# Altium footprint library DIP.PcbLib: 25 footprints (part 2 of 2)
Each footprint in its own frame and in the unit in brackets; x right, y up, seen from the top. Pads: shape width x height; smd on the part's side, far side on the other; paste and mask are expansions set on the pad; w line width, h text height; cw(c..) or ccw(c..) is an arc to the next point about the centre after c.
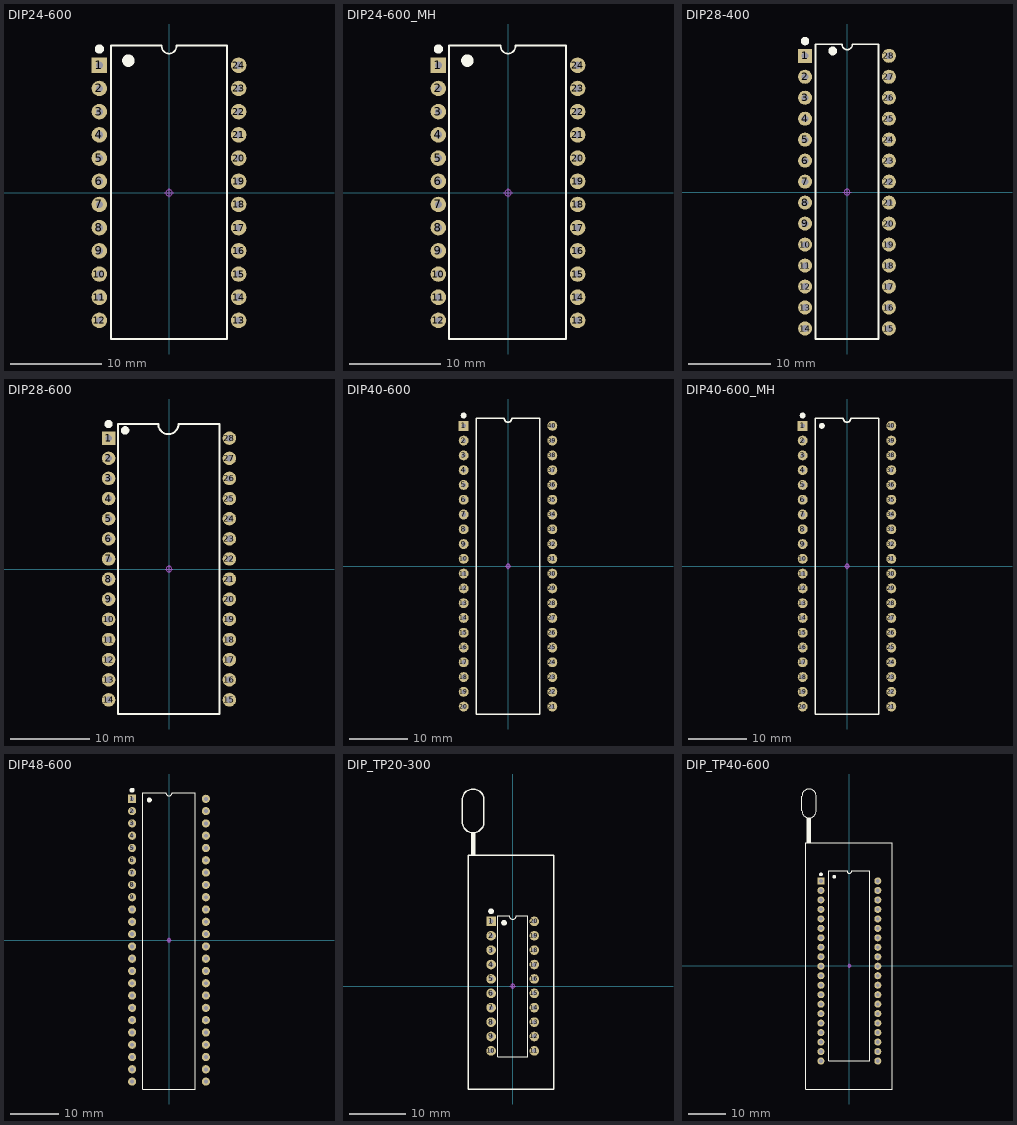
[diagram p1: the footprints below, top view; thin cyan lines are the x and y axes]

## DIP24-600 [mm] "32.5*15.24*3.8(长宽高）"
pads (24):
  rect 1.7x1.7 hole 0.8: 1(-7.62,13.97)
  round 1.7 hole 0.8: 2(-7.62,11.43) 3(-7.62,8.89) 4(-7.62,6.35) 5(-7.62,3.81) 6(-7.62,1.27) 7(-7.62,-1.27) 8(-7.62,-3.81) 9(-7.62,-6.35) 10(-7.62,-8.89) 11(-7.62,-11.43) 12(-7.62,-13.97) 13(7.62,-13.97) 14(7.62,-11.43) 15(7.62,-8.89) 16(7.62,-6.35) 17(7.62,-3.81) 18(7.62,-1.27) 19(7.62,1.27) 20(7.62,3.81) 21(7.62,6.35) 22(7.62,8.89) 23(7.62,11.43) 24(7.62,13.97)
Top Overlay:
  circle w0.508: c-7.62,15.748 r0.254
  circle w1: c-4.445,14.478 r0.18
  lines w0.2: -0.796,16.121 ccw(c0.004,16.044) 0.803,16.134 ; -0.796,16.14 -6.35,16.14 -6.35,-16.002 6.35,-16.002 6.35,16.14 0.803,16.14
Mechanical 15:
  circle w0.05: c0,0 r0.35
  lines w0.05: -0.5,0 0.5,0 ; 0,-0.5 0,0.5
3D body "DIP24-600.STEP": height 4.5, standoff -3.3, extent -7.73,-16.25 7.73,16.25

## DIP24-600_MH [mm] "带底座 32.5*15.24*3.8(长宽高）"
pads (24):
  rect 1.7x1.7 hole 0.8: 1(-7.62,13.97)
  round 1.7 hole 0.8: 2(-7.62,11.43) 3(-7.62,8.89) 4(-7.62,6.35) 5(-7.62,3.81) 6(-7.62,1.27) 7(-7.62,-1.27) 8(-7.62,-3.81) 9(-7.62,-6.35) 10(-7.62,-8.89) 11(-7.62,-11.43) 12(-7.62,-13.97) 13(7.62,-13.97) 14(7.62,-11.43) 15(7.62,-8.89) 16(7.62,-6.35) 17(7.62,-3.81) 18(7.62,-1.27) 19(7.62,1.27) 20(7.62,3.81) 21(7.62,6.35) 22(7.62,8.89) 23(7.62,11.43) 24(7.62,13.97)
Top Overlay:
  circle w0.508: c-7.62,15.748 r0.254
  circle w1: c-4.445,14.478 r0.18
  lines w0.2: -0.796,16.121 ccw(c0.004,16.044) 0.803,16.134 ; -0.796,16.14 -6.46,16.14 -6.46,-16.002 6.35,-16.002 6.35,16.14 0.803,16.14
Mechanical 15:
  circle w0.05: c0,0 r0.35
  lines w0.05: -0.5,0 0.5,0 ; 0,-0.5 0,0.5
3D body "DIP-MH24-600.STEP": height 4.95, standoff -3.05, extent -8.845,-15.5 8.845,15.5
3D body "DIP24-600.STEP": height 7.8, standoff 0, extent -7.73,-16.25 7.73,16.25

## DIP28-400 [mm] "36*10.16*3.8(长宽高）"
pads (28):
  rect 1.7x1.7 hole 0.8: 1(-5.08,16.51)
  round 1.7 hole 0.8: 2(-5.08,13.97) 3(-5.08,11.43) 4(-5.08,8.89) 5(-5.08,6.35) 6(-5.08,3.81) 7(-5.08,1.27) 8(-5.08,-1.27) 9(-5.08,-3.81) 10(-5.08,-6.35) 11(-5.08,-8.89) 12(-5.08,-11.43) 13(-5.08,-13.97) 14(-5.08,-16.51) 15(5.08,-16.51) 16(5.08,-13.97) 17(5.08,-11.43) 18(5.08,-8.89) 19(5.08,-6.35) 20(5.08,-3.81) 21(5.08,-1.27) 22(5.08,1.27) 23(5.08,3.81) 24(5.08,6.35) 25(5.08,8.89) 26(5.08,11.43) 27(5.08,13.97) 28(5.08,16.51)
Top Overlay:
  circle w0.508: c-5.08,18.288 r0.254
  circle w0.8: c-1.727,17.094 r0.127
  lines w0.2: -3.81,-17.78 3.81,-17.78 3.81,17.893 0.66,17.893 cw(c0.025,17.893) -0.61,17.893 -3.81,17.893 -3.81,-17.78
Mechanical 15:
  circle w0.05: c0,0 r0.35
  lines w0.05: -0.5,0 0.5,0 ; 0,-0.5 0,0.5
3D body "DIP28-400.STEP": height 4.5, standoff -3.4, extent -5.28,-17.923 5.28,18.077

## DIP28-600 [mm] "37.3*15.3*4长宽高）"
pads (28):
  rect 1.7x1.7 hole 0.8: 1(-7.62,16.51)
  round 1.7 hole 0.8: 2(-7.62,13.97) 3(-7.62,11.43) 4(-7.62,8.89) 5(-7.62,6.35) 6(-7.62,3.81) 7(-7.62,1.27) 8(-7.62,-1.27) 9(-7.62,-3.81) 10(-7.62,-6.35) 11(-7.62,-8.89) 12(-7.62,-11.43) 13(-7.62,-13.97) 14(-7.62,-16.51) 15(7.62,-16.51) 16(7.62,-13.97) 17(7.62,-11.43) 18(7.62,-8.89) 19(7.62,-6.35) 20(7.62,-3.81) 21(7.62,-1.27) 22(7.62,1.27) 23(7.62,3.81) 24(7.62,6.35) 25(7.62,8.89) 26(7.62,11.43) 27(7.62,13.97) 28(7.62,16.51)
Top Overlay:
  circle w0.508: c-7.62,18.288 r0.254
  circle w0.8: c-5.537,17.49 r0.127
  lines w0.254: -6.46,18.277 -6.46,-18.288 6.35,-18.288 6.35,18.288 1.185,18.288 cw(c-0.085,18.288) -1.355,18.288 -6.435,18.288
Mechanical 15:
  circle w0.05: c0,0 r0.35
  lines w0.05: -0.5,0 0.5,0 ; 0,-0.5 0,0.5
3D body "DIP28-600.STEP": height 4.7, standoff -3.2, extent -7.78,-18.65 7.78,18.65

## DIP40-600 [mm] "52*15.2*4mm(长宽高)"
pads (40):
  rect 1.7x1.7 hole 0.8: 1(-7.62,24.13)
  round 1.7 hole 0.8: 2(-7.62,21.59) 3(-7.62,19.05) 4(-7.62,16.51) 5(-7.62,13.97) 6(-7.62,11.43) 7(-7.62,8.89) 8(-7.62,6.35) 9(-7.62,3.81) 10(-7.62,1.27) 11(-7.62,-1.27) 12(-7.62,-3.81) 13(-7.62,-6.35) 14(-7.62,-8.89) 15(-7.62,-11.43) 16(-7.62,-13.97) 17(-7.62,-16.51) 18(-7.62,-19.05) 19(-7.62,-21.59) 20(-7.62,-24.13) 21(7.62,-24.13) 22(7.62,-21.59) 23(7.62,-19.05) 24(7.62,-16.51) 25(7.62,-13.97) 26(7.62,-11.43) 27(7.62,-8.89) 28(7.62,-6.35) 29(7.62,-3.81) 30(7.62,-1.27) 31(7.62,1.27) 32(7.62,3.81) 33(7.62,6.35) 34(7.62,8.89) 35(7.62,11.43) 36(7.62,13.97) 37(7.62,16.51) 38(7.62,19.05) 39(7.62,21.59) 40(7.62,24.13)
Top Overlay:
  circle w0.508: c-7.62,25.908 r0.254
  lines w0.254: -5.461,-25.4 -5.461,25.4 -0.635,25.4 ccw(c0,25.4) 0.635,25.4 5.461,25.4 5.461,-25.4 -5.461,-25.4
Mechanical 15:
  circle w0.05: c0,0 r0.35
  lines w0.05: -0.5,0 0.5,0 ; 0,-0.5 0,0.5
3D body "DIP40-600.STEP": height 4.7, standoff -3.2, extent -7.78,-26.176 7.78,26.176

## DIP40-600_MH [mm] "带底座 52*15.2*4mm(长宽高)"
pads (40):
  rect 1.7x1.7 hole 0.8: 1(-7.62,24.13)
  round 1.7 hole 0.8: 2(-7.62,21.59) 3(-7.62,19.05) 4(-7.62,16.51) 5(-7.62,13.97) 6(-7.62,11.43) 7(-7.62,8.89) 8(-7.62,6.35) 9(-7.62,3.81) 10(-7.62,1.27) 11(-7.62,-1.27) 12(-7.62,-3.81) 13(-7.62,-6.35) 14(-7.62,-8.89) 15(-7.62,-11.43) 16(-7.62,-13.97) 17(-7.62,-16.51) 18(-7.62,-19.05) 19(-7.62,-21.59) 20(-7.62,-24.13) 21(7.62,-24.13) 22(7.62,-21.59) 23(7.62,-19.05) 24(7.62,-16.51) 25(7.62,-13.97) 26(7.62,-11.43) 27(7.62,-8.89) 28(7.62,-6.35) 29(7.62,-3.81) 30(7.62,-1.27) 31(7.62,1.27) 32(7.62,3.81) 33(7.62,6.35) 34(7.62,8.89) 35(7.62,11.43) 36(7.62,13.97) 37(7.62,16.51) 38(7.62,19.05) 39(7.62,21.59) 40(7.62,24.13)
Top Overlay:
  circle w0.508: c-4.318,24.13 r0.254
  circle w0.508: c-7.62,25.908 r0.254
  lines w0.254: -5.461,-25.4 5.461,-25.4 5.461,25.4 0.635,25.4 cw(c0,25.4) -0.635,25.4 -5.461,25.4 -5.461,-25.4
Mechanical 15:
  circle w0.05: c0,0 r0.35
  lines w0.05: -0.5,0 0.5,0 ; 0,-0.5 0,0.5
3D body "DIP-MH40-600.STEP": height 5.2, standoff -3, extent -8.9,-25.3 8.9,25.3
3D body "DIP40-600.STEP": height 8.3, standoff 0.4, extent -7.78,-26.176 7.78,26.176

## DIP48-600 [mm] "61.49*15.24*3.8(长宽高）"
pads (48):
  rect 1.7x1.7 hole 0.8: 1(-7.62,29.21)
  round 1.7 hole 0.8: 2(-7.62,26.67) 3(-7.62,24.13) 4(-7.62,21.59) 5(-7.62,19.05) 6(-7.62,16.51) 7(-7.62,13.97) 8(-7.62,11.43) 9(-7.62,8.89) 10(-7.62,6.35) 11(-7.62,3.81) 12(-7.62,1.27) 13(-7.62,-1.27) 14(-7.62,-3.81) 15(-7.62,-6.35) 16(-7.62,-8.89) 17(-7.62,-11.43) 18(-7.62,-13.97) 19(-7.62,-16.51) 20(-7.62,-19.05) 21(-7.62,-21.59) 22(-7.62,-24.13) 23(-7.62,-26.67) 24(-7.62,-29.21) 25(7.62,-29.21) 26(7.62,-26.67) 27(7.62,-24.13) 28(7.62,-21.59) 29(7.62,-19.05) 30(7.62,-16.51) 31(7.62,-13.97) 32(7.62,-11.43) 33(7.62,-8.89) 34(7.62,-6.35) 35(7.62,-3.81) 36(7.62,-1.27) 37(7.62,1.27) 38(7.62,3.81) 39(7.62,6.35) 40(7.62,8.89) 41(7.62,11.43) 42(7.62,13.97) 43(7.62,16.51) 44(7.62,19.05) 45(7.62,21.59) 46(7.62,24.13) 47(7.62,26.67) 48(7.62,29.21)
Top Overlay:
  circle w0.508: c-7.62,30.988 r0.254
  circle w0.508: c-4.064,28.956 r0.254
  lines w0.254: -5.461,-30.734 -5.461,30.48 -0.635,30.48 ccw(c0,30.48) 0.635,30.48 5.461,30.48 5.461,-30.734 -5.461,-30.734
Mechanical 15:
  circle w0.05: c0,0 r0.35
  lines w0.05: -0.5,0 0.5,0 ; 0,-0.5 0,0.5
3D body "DIP48-600.STEP": height 4.7, standoff -3.2, extent -7.775,-30.745 7.775,30.745

## DIP_TP20-300 [mm] "41*15*10.5(长宽高）"
pads (20):
  rect 1.7x1.7 hole 0.8: 1(-3.81,11.43)
  round 1.7 hole 0.8: 2(-3.81,8.89) 3(-3.81,6.35) 4(-3.81,3.81) 5(-3.81,1.27) 6(-3.81,-1.27) 7(-3.81,-3.81) 8(-3.81,-6.35) 9(-3.81,-8.89) 10(-3.81,-11.43) 11(3.81,-11.43) 12(3.81,-8.89) 13(3.81,-6.35) 14(3.81,-3.81) 15(3.81,-1.27) 16(3.81,1.27) 17(3.81,3.81) 18(3.81,6.35) 19(3.81,8.89) 20(3.81,11.43)
Top Overlay:
  circle w0.508: c-1.524,11.176 r0.254
  circle w0.508: c-3.81,13.208 r0.254
  rectangle: -7.366,23.114 -6.604,27.051
  lines w0.2: -2.65,-12.446 -2.65,12.446 -0.635,12.446 ccw(c0,12.446) 0.635,12.446 2.65,12.446 2.65,-12.446 -2.65,-12.446
  lines w0.254: -8.89,28.956 ccw(c-6.985,28.956) -5.08,28.956 -5.08,32.893 ccw(c-6.985,32.893) -8.89,32.893 -8.89,28.956 ; -7.874,-18.161 7.239,-18.161 7.239,23.114 -7.874,23.114 -7.874,-18.161
Mechanical 15:
  circle w0.05: c0,0 r0.35
  lines w0.05: -0.5,0 0.5,0 ; 0,-0.5 0,0.5
3D body "DIP_TP20-300.STEP": height 11.15, standoff -3.15, extent -9.26,-18.08 7.09,34.72

## DIP_TP40-600 [mm] "65.5*22.5*11(长宽高）"
pads (40):
  rect 1.9x1.9 hole 1: 1(-7.62,22.733)
  round 1.9 hole 1: 2(-7.62,20.193) 3(-7.62,17.653) 4(-7.62,15.113) 5(-7.62,12.573) 6(-7.62,10.033) 7(-7.62,7.493) 8(-7.62,4.953) 9(-7.62,2.413) 10(-7.62,-0.127) 11(-7.62,-2.667) 12(-7.62,-5.207) 13(-7.62,-7.747) 14(-7.62,-10.287) 15(-7.62,-12.827) 16(-7.62,-15.367) 17(-7.62,-17.907) 18(-7.62,-20.447) 19(-7.62,-22.987) 20(-7.62,-25.527) 21(7.62,-25.527) 22(7.62,-22.987) 23(7.62,-20.447) 24(7.62,-17.907) 25(7.62,-15.367) 26(7.62,-12.827) 27(7.62,-10.287) 28(7.62,-7.747) 29(7.62,-5.207) 30(7.62,-2.667) 31(7.62,-0.127) 32(7.62,2.413) 33(7.62,4.953) 34(7.62,7.493) 35(7.62,10.033) 36(7.62,12.573) 37(7.62,15.113) 38(7.62,17.653) 39(7.62,20.193) 40(7.62,22.733)
Top Overlay:
  circle w0.508: c-4.064,23.876 r0.254
  circle w0.508: c-7.62,24.511 r0.254
  lines w0.254: -11.303,33.02 -11.303,39.624 ; -11.049,33.02 -11.049,39.624 ; -10.922,33.147 -10.922,39.497 ; -10.668,33.02 -10.668,39.624 ; -10.414,33.02 -10.414,39.624 ; -12.7,41.529 ccw(c-10.795,41.529) -8.89,41.529 -8.89,45.466 ccw(c-10.795,45.466) -12.7,45.466 -12.7,41.529 ; -11.684,-33.02 -11.684,33.02 11.43,33.02 11.43,-33.02 -11.684,-33.02 ; -5.461,-25.4 -5.461,25.4 -0.635,25.4 ccw(c0,25.4) 0.635,25.4 5.461,25.4 5.461,-25.4 -5.461,-25.4
Mechanical 15:
  circle w0.05: c0,0 r0.35
  lines w0.05: -0.5,0 0.5,0 ; 0,-0.5 0,0.5
3D body "DIP_TP40-600.STEP": height 11.65, standoff -3.15, extent -12.8,-32.75 11.35,47.65